# Altium schematic symbol library DIT4096.SchLib: 1 symbol
Pins are listed as number, name and electrical type; pins without a type are passive.

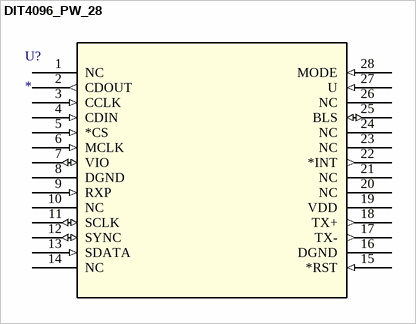
[diagram p0: symbol DIT4096_PW_28]

## DIT4096_PW_28
designator U?
Imported; Manufacturer: Texas Instruments; GENERIC_PART_NUMBER: DIT4096; Manufacturer_Part_Number: dit4096_pw_28; INDUSTRY_STD_PKG_TYPE: TSSOP; FAMILY_NAME: DIGITAL AUDIO TRANSMITTER; PIN_COUNT: 28; PACKAGE_DESIGNATOR: PW; Datasheet_URL: http://www.ti.com/lit/gpn/DIT4096; Vendor: Texas Instruments; Value: Value; Type: Type; RefDes: RefDes
footprint PW28-M
pins: 1 NC, 2 CDOUT (out), 3 CCLK (in), 4 CDIN (in), 5 *CS (in), 6 MCLK (in), 7 VIO (io), 8 DGND (power), 9 RXP (in), 10 NC, 11 SCLK (io), 12 SYNC (io), 13 SDATA (in), 14 NC, 15 *RST (in), 16 DGND (power), 17 TX- (out), 18 TX+ (out), 19 VDD (power), 20 NC, 21 NC, 22 *INT (out), 23 NC, 24 NC, 25 BLS (io), 26 NC, 27 U (in), 28 MODE (in)